# Altium integrated library STM32H750VBT6 CoreBoard AltiumDesigner.IntLib: 1 symbol
Pins are listed as number, name and electrical type; pins without a type are passive.

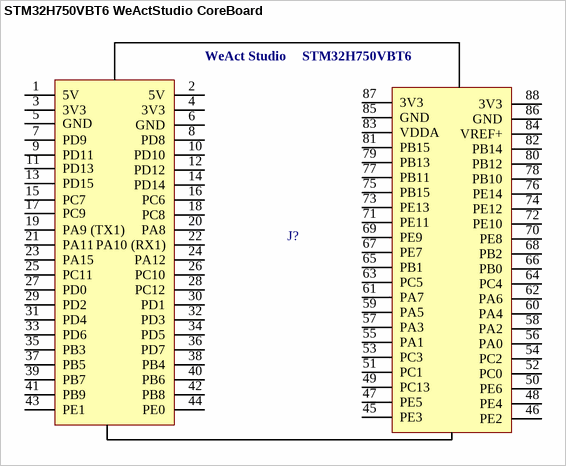
[diagram p0: symbol STM32H750VBT6 WeActStudio CoreBoard]

## STM32H750VBT6 WeActStudio CoreBoard
designator J?, comment STM32H750VBT6 Cortex M7 Core Board By WeActStudio  (value not drawn)
footprint STM32H750VBT6 Core Board (STM32H750VBT6 Core Board By WeActStudio)
pins: 1 5V, 2 5V, 3 3V3, 4 3V3, 5 GND, 6 GND, 7 PD9, 8 PD8, 9 PD11, 10 PD10, 11 PD13, 12 PD12, 13 PD15, 14 PD14, 15 PC7, 16 PC6, 17 PC9, 18 PC8, 19 PA9 (TX1), 20 PA8, 21 PA11, 22 PA10 (RX1), 23 PA15, 24 PA12, 25 PC11, 26 PC10, 27 PD0, 28 PC12, 29 PD2, 30 PD1, 31 PD4, 32 PD3, 33 PD6, 34 PD5, 35 PB3, 36 PD7, 37 PB5, 38 PB4, 39 PB7, 40 PB6, 41 PB9, 42 PB8, 43 PE1, 44 PE0, 45 PE3, 46 PE2, 47 PE5, 48 PE4, 49 PC13, 50 PE6, 51 PC1, 52 PC0, 53 PC3, 54 PC2, 55 PA1, 56 PA0, 57 PA3, 58 PA2, 59 PA5, 60 PA4, 61 PA7, 62 PA6, 63 PC5, 64 PC4, 65 PB1, 66 PB0, 67 PE7, 68 PB2, 69 PE9, 70 PE8, 71 PE11, 72 PE10, 73 PE13, 74 PE12, 75 PB15, 76 PE14, 77 PB11, 78 PB10, 79 PB13, 80 PB12, 81 PB15, 82 PB14, 83 VDDA, 84 VREF+, 85 GND, 86 GND, 87 3V3, 88 3V3
text: WeAct Studio; STM32H750VBT6